# Altium footprint library EurorackParts.PcbLib: 5 footprints
Each footprint in its own frame and in the unit in brackets; x right, y up, seen from the top. Pads: shape width x height; smd on the part's side, far side on the other; paste and mask are expansions set on the pad; w line width, h text height; cw(c..) or ccw(c..) is an arc to the next point about the centre after c.
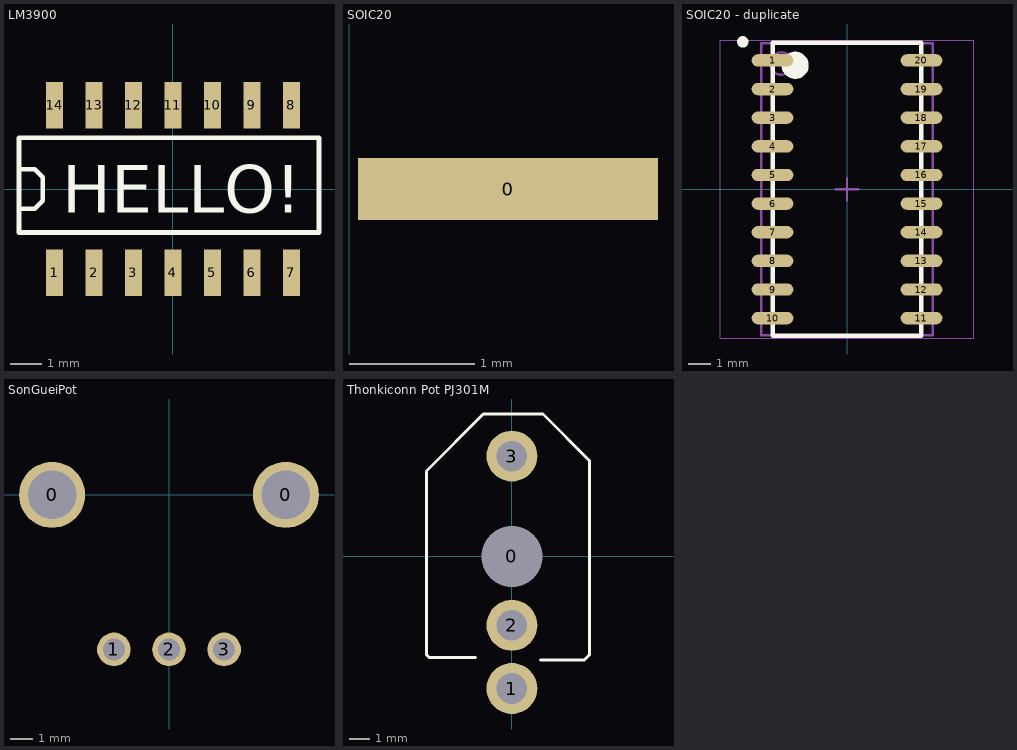
[diagram p0: the footprints below, top view; thin cyan lines are the x and y axes]

## LM3900 [mm] "LM3900 SOIC"
height 0.002
pads (14):
  rect 0.55x1.5 smd: 1(-3.81,-2.7) 2(-2.54,-2.7) 3(-1.27,-2.7) 4(0,-2.7) 5(1.27,-2.7) 6(2.54,-2.7) 7(3.81,-2.7) 8(3.81,2.7) 9(2.54,2.7) 10(1.27,2.7) 11(0,2.7) 12(-1.27,2.7) 13(-2.54,2.7) 14(-3.81,2.7)
Top Overlay:
  lines w0.152: -4.953,-0.635 -4.445,-0.635 -4.191,-0.381 -4.191,0.381 -4.445,0.635 -4.953,0.635 ; -4.953,-1.397 4.699,-1.397 4.699,1.651 -4.953,1.651 -4.953,-1.397
  text "HELLO!" at -3.556,-0.762 h1.52

## SOIC20 [mm] "20 pin SOIC"
height 1.8
pads (1):
  rect 2.4x0.5 smd: 0(1.27,1.397)

## SOIC20 - duplicate [mm]
pads (20):
  oval 1.85x0.55 smd: 1(-3.302,5.715) 2(-3.302,4.445) 3(-3.302,3.175) 4(-3.302,1.905) 5(-3.302,0.635) 6(-3.302,-0.635) 7(-3.302,-1.905) 8(-3.302,-3.175) 9(-3.302,-4.445) 10(-3.302,-5.715) 11(3.302,-5.715) 12(3.302,-4.445) 13(3.302,-3.175) 14(3.302,-1.905) 15(3.302,-0.635) 16(3.302,0.635) 17(3.302,1.905) 18(3.302,3.175) 19(3.302,4.445) 20(3.302,5.715)
Top Overlay:
  circle w0.25: c-4.625,6.54 r0.125
  circle w0.6: c-2.3,5.5 r0.3
  lines w0.2: -3.3,-6.5 -3.3,6.5 3.3,6.5 3.3,-6.5 -3.3,-6.5
Mechanical 13:
  circle w0.1: c-2.9,5.575 r0.5
  lines w0.1: -3.8,-6.475 -3.8,6.475 3.8,6.475 3.8,-6.475 -3.8,-6.475
Mechanical 15:
  lines w0.05: -5.625,-6.6 -5.625,6.6 5.625,6.6 5.625,-6.6 -5.625,-6.6
  lines w0.1: -0.5,0 0.5,0 ; 0,-0.5 0,0.5
3D body: height 2.65, standoff 0.1, extent -3.8,-6.475 3.8,6.475

## SonGueiPot [mm]
pads (5):
  round 3 hole 2.2: 0(-5.3,0) 0(5.3,0)
  round 1.524 hole 1: 1(-2.5,-7) 2(0,-7) 3(2.5,-7)
3D body "9mmAlpha.step": height 20, standoff -3.8, extent -4.876,-7.235 4.876,5.315

## Thonkiconn Pot PJ301M [mm] "PJ301 Thonkicon Jack from Thonk"
height 0.368
pads (4):
  round 1.524 hole 3: 0(0,0)
  round 2.5 hole 1.5: 1(0,-6.48) 2(0,-3.38) 3(0,4.92)
Top Overlay:
  lines w0.152: -1.778,-4.953 -4.064,-4.953 -4.191,-4.826 -4.191,4.191 -1.397,6.985 1.524,6.985 3.81,4.699 3.81,-4.826 3.556,-5.08 1.397,-5.08
3D body "mj-3507.stp": height 14, standoff -5.6, extent -4.555,-10.286 4.445,5.714